# EAGLE library part PIC18F2*21 (library micro-pic18xxx-2)
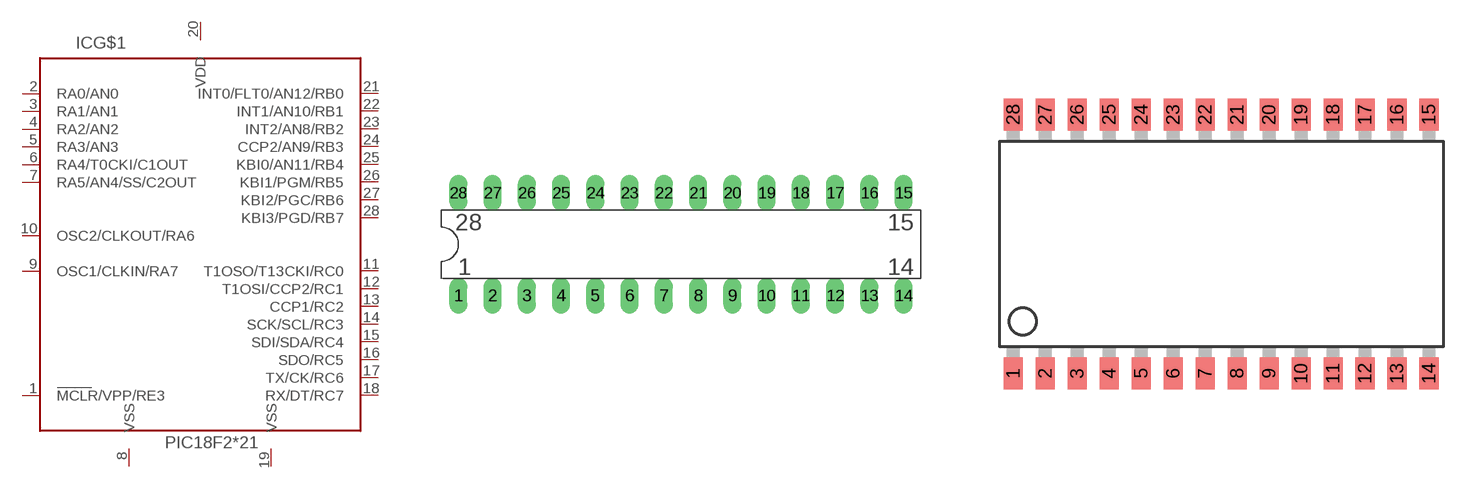
[diagram p5: symbol with the pads of DIL28-3; footprints DIL28-3, SO-28W]

Designator prefix IC; gates G$1=F2X21 VDD=VDD VSS1=VSS VSS2=VSS

## PIC18F2221P, PIC18F2321P  [DIL28-3]
1  G$1:MCLR/VPP/RE3  in
2  G$1:RA0/AN0
3  G$1:RA1/AN1
4  G$1:RA2/AN2
5  G$1:RA3/AN3
6  G$1:RA4/T0CKI/C1OUT
7  G$1:RA5/AN4/SS/C2OUT
8  VSS1:VSS  pwr
9  G$1:OSC1/CLKIN/RA7  in
10  G$1:OSC2/CLKOUT/RA6  out
11  G$1:T1OSO/T13CKI/RC0
12  G$1:T1OSI/CCP2/RC1
13  G$1:CCP1/RC2
14  G$1:SCK/SCL/RC3
15  G$1:SDI/SDA/RC4
16  G$1:SDO/RC5
17  G$1:TX/CK/RC6
18  G$1:RX/DT/RC7
19  VSS2:VSS  pwr
20  VDD:VDD  pwr
21  G$1:INT0/FLT0/AN12/RB0
22  G$1:INT1/AN10/RB1
23  G$1:INT2/AN8/RB2
24  G$1:CCP2/AN9/RB3
25  G$1:KBI0/AN11/RB4
26  G$1:KBI1/PGM/RB5
27  G$1:KBI2/PGC/RB6
28  G$1:KBI3/PGD/RB7

## PIC18F2221SO, PIC18F2321SO  [SO-28W]
Pads as for DIL28-3

## PIC18F2221SS, PIC18F2321SS  [SSOP28]
Pads as for DIL28-3

## Footprint DIL28-3 (pad centres in mm)
DIL package type P
drill 0.813 long: 1 -16.51,-3.81; 2 -13.97,-3.81; 3 -11.43,-3.81; 4 -8.89,-3.81; 5 -6.35,-3.81; 6 -3.81,-3.81; 7 -1.27,-3.81; 8 1.27,-3.81; 9 3.81,-3.81; 10 6.35,-3.81; 11 8.89,-3.81; 12 11.43,-3.81; 13 13.97,-3.81; 14 16.51,-3.81; 15 16.51,3.81; 16 13.97,3.81; 17 11.43,3.81; 18 8.89,3.81; 19 6.35,3.81; 20 3.81,3.81; 21 1.27,3.81; 22 -1.27,3.81; 23 -3.81,3.81; 24 -6.35,3.81; 25 -8.89,3.81; 26 -11.43,3.81; 27 -13.97,3.81; 28 -16.51,3.81

## Footprint SO-28W (pad centres in mm)
Small Outline Wide Plastic Gull Wing 300-mil body package type SO
smd 0.762 x 1.27: 1 -7.62,-5.207; 2 -6.35,-5.207; 3 -5.08,-5.207; 4 -3.81,-5.207; 5 -2.54,-5.207; 6 -1.27,-5.207; 7 0,-5.207; 8 1.27,-5.207; 9 2.54,-5.207; 10 3.81,-5.207; 11 5.08,-5.207; 12 6.35,-5.207; 13 7.62,-5.207; 14 8.89,-5.207; 15 8.89,5.08; 16 7.62,5.08; 17 6.35,5.08; 18 5.08,5.08; 19 3.81,5.08; 20 2.54,5.08; 21 1.27,5.08; 22 0,5.08; 23 -1.27,5.08; 24 -2.54,5.08; 25 -3.81,5.08; 26 -5.08,5.08; 27 -6.35,5.08; 28 -7.62,5.08

## Footprint SSOP28 (pad centres in mm)
SSOP package type SS
smd 0.4 x 1.5: 1 -4.225,-3.625; 2 -3.575,-3.625; 3 -2.925,-3.625; 4 -2.275,-3.625; 5 -1.625,-3.625; 6 -0.975,-3.625; 7 -0.325,-3.625; 8 0.325,-3.625; 9 0.975,-3.625; 10 1.625,-3.625; 11 2.275,-3.625; 12 2.925,-3.625; 13 3.575,-3.625; 14 4.225,-3.625; 15 4.225,3.625; 16 3.575,3.625; 17 2.925,3.625; 18 2.275,3.625; 19 1.625,3.625; 20 0.975,3.625; 21 0.325,3.625; 22 -0.325,3.625; 23 -0.975,3.625; 24 -1.625,3.625; 25 -2.275,3.625; 26 -2.925,3.625; 27 -3.575,3.625; 28 -4.225,3.625